# Altium footprint library J 接插件.PcbLib: 458 footprints (part 23 of 29)
Each footprint in its own frame and in the unit in brackets; x right, y up, seen from the top. Pads: shape width x height; smd on the part's side, far side on the other; paste and mask are expansions set on the pad; w line width, h text height; cw(c..) or ccw(c..) is an arc to the next point about the centre after c.
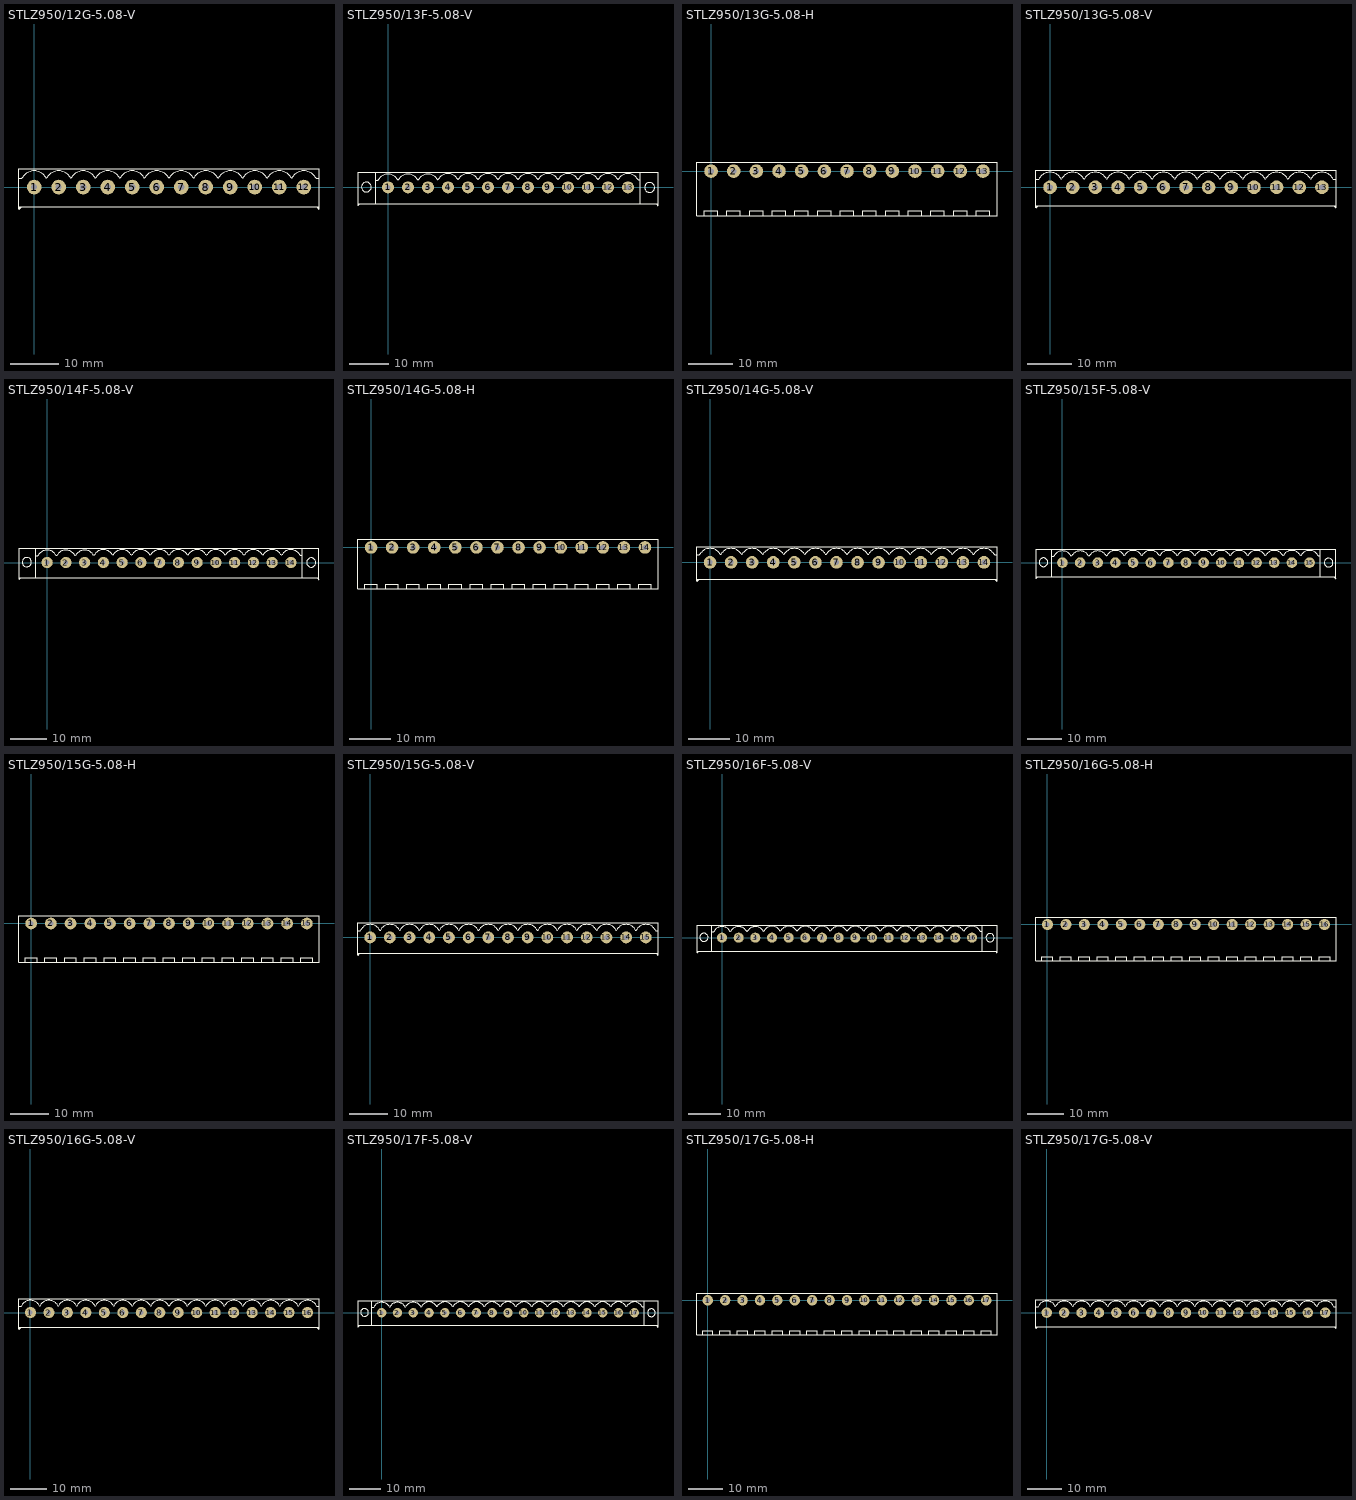
[diagram p22: the footprints below, top view; thin cyan lines are the x and y axes]

## STLZ950/12G-5.08-V [mil] "美卡诺 STLZ950 接触件座  间距：5.08   12Pin"
height 826.77
pads (12):
  round 120 hole 50: 1(0,0) 2(200,0) 3(400,0) 4(600,0) 5(800,0) 6(1000,0) 7(1200,0) 8(1400,0) 9(1600,0) 10(1800,0) 11(2000,0) 12(2200,0)
Top Overlay:
  lines w10: -123.62,-181.1 -123.62,149.61 2323.62,149.61 2323.62,-181.1 ; -123.62,-161.42 2323.62,-161.42 ; -122.05,-180.12 -104.82,-162.89 ; -120,70 -100,70 cw(c0,20) 100,70 cw(c200,20) 300,70 cw(c400,20) 500,70 cw(c600,20) 700,70 cw(c800,20) 900,70 cw(c1000,20) 1100,70 cw(c1200,20) 1300,70 cw(c1400,20) 1500,70 cw(c1600,20) 1700,70 cw(c1800,20) 1900,70 cw(c2000,20) 2100,70 cw(c2200,20) 2300,70 2320,70 ; -116.14,-172.24 -116.14,-164.37 ; 2303.64,-161.91 2322.83,-181.1 ; 2317.91,-171.26 2317.91,-162.4

## STLZ950/13F-5.08-V [mil] "美卡诺 STLZ950 接触件座  间距：5.08   13Pin  带螺丝"
height 826.77
pads (13):
  round 120 hole 50: 1(0,0) 2(200,0) 3(400,0) 4(600,0) 5(800,0) 6(1000,0) 7(1200,0) 8(1400,0) 9(1600,0) 10(1800,0) 11(2000,0) 12(2200,0) 13(2400,0)
Top Overlay:
  circle w10: c-216.54,3.94 r49.21
  circle w10: c2616.54,0 r49.21
  lines w10: -300,-181.1 -300,149.61 2700,149.61 2700,-181.1 ; -300,-161.42 2700,-161.42 ; -299.21,-180.12 -281.99,-162.89 ; -293.31,-172.24 -293.31,-164.37 ; -123.62,-161.42 -123.62,149.61 ; -120,70 -100,70 cw(c0,20) 100,70 cw(c200,20) 300,70 cw(c400,20) 500,70 ; 500,75 cw(c600,25) 700,75 cw(c800,25) 900,75 cw(c1000,25) 1100,75 cw(c1200,25) 1300,75 cw(c1400,25) 1500,75 cw(c1600,25) 1700,75 cw(c1800,25) 1900,75 cw(c2000,25) 2100,75 cw(c2200,25) 2300,75 cw(c2400,25) 2500,75 2520,75 ; 2523.62,-161.42 2523.62,149.61 ; 2682,-164 2699.22,-181.22 ; 2690,-165 2697.87,-165

## STLZ950/13G-5.08-H [mil] "美卡诺 STLZ950接触件座  间距：5.08  13Pin   弯角"
height 330.71
pads (13):
  round 120 hole 50: 1(0,0) 2(200,0) 3(400,0) 4(600,0) 5(800,0) 6(1000,0) 7(1200,0) 8(1400,0) 9(1600,0) 10(1800,0) 11(2000,0) 12(2200,0) 13(2400,0)
Top Overlay:
  lines w10: -60,-390 -60,-350 60,-350 60,-390 ; 140,-390 140,-350 260,-350 260,-390 ; 340,-390 340,-350 460,-350 460,-390 ; 540,-390 540,-350 660,-350 660,-390 ; 740,-390 740,-350 860,-350 860,-390 ; 940,-390 940,-350 1060,-350 1060,-390 ; 1140,-390 1140,-350 1260,-350 1260,-390 ; 1340,-390 1340,-350 1460,-350 1460,-390 ; 1540,-390 1540,-350 1660,-350 1660,-390 ; 1740,-390 1740,-350 1860,-350 1860,-390 ; 1940,-390 1940,-350 2060,-350 2060,-390 ; 2140,-390 2140,-350 2260,-350 2260,-390 ; 2340,-390 2340,-350 2460,-350 2460,-390 ; -123.62,-393.7 2523.62,-393.7 2523.62,78.74 -123.62,78.74 -123.62,-393.7

## STLZ950/13G-5.08-V [mil] "美卡诺 STLZ950 接触件座  间距：5.08   13Pin"
height 826.77
pads (13):
  round 120 hole 50: 1(0,0) 2(200,0) 3(400,0) 4(600,0) 5(800,0) 6(1000,0) 7(1200,0) 8(1400,0) 9(1600,0) 10(1800,0) 11(2000,0) 12(2200,0) 13(2400,0)
Top Overlay:
  lines w10: -123.62,-181.1 -123.62,149.61 2523.62,149.61 2523.62,-181.1 ; -123.62,-161.42 2523.62,-161.42 ; -122.05,-180.12 -104.82,-162.89 ; -120,70 -100,70 cw(c0,20) 100,70 cw(c200,20) 300,70 cw(c400,20) 500,70 cw(c600,20) 700,70 cw(c800,20) 900,70 cw(c1000,20) 1100,70 cw(c1200,20) 1300,70 cw(c1400,20) 1500,70 cw(c1600,20) 1700,70 cw(c1800,20) 1900,70 cw(c2000,20) 2100,70 cw(c2200,20) 2300,70 cw(c2400,20) 2500,70 2520,70 ; -116.14,-172.24 -116.14,-164.37 ; 2503.64,-161.91 2522.83,-181.1 ; 2517.91,-171.26 2517.91,-162.4

## STLZ950/14F-5.08-V [mil] "美卡诺 STLZ950 接触件座  间距：5.08   14Pin  带螺丝"
height 826.77
pads (14):
  round 120 hole 50: 1(0,0) 2(200,0) 3(400,0) 4(600,0) 5(800,0) 6(1000,0) 7(1200,0) 8(1400,0) 9(1600,0) 10(1800,0) 11(2000,0) 12(2200,0) 13(2400,0) 14(2600,0)
Top Overlay:
  circle w10: c2816.54,0 r49.21
  circle w10: c-216.54,3.94 r49.21
  lines w10: -300,-181.1 -300,149.61 2900,149.61 2900,-181.1 ; -300,-161.42 2900,-161.42 ; -299.21,-180.12 -281.99,-162.89 ; -293.31,-172.24 -293.31,-164.37 ; -123.62,-161.42 -123.62,149.61 ; -120,70 -100,70 cw(c0,20) 100,70 cw(c200,20) 300,70 cw(c400,20) 500,70 ; 500,75 cw(c600,25) 700,75 cw(c800,25) 900,75 cw(c1000,25) 1100,75 cw(c1200,25) 1300,75 cw(c1400,25) 1500,75 cw(c1600,25) 1700,75 cw(c1800,25) 1900,75 cw(c2000,25) 2100,75 cw(c2200,25) 2300,75 cw(c2400,25) 2500,75 cw(c2600,25) 2700,75 2720,75 ; 2723.62,-161.42 2723.62,149.61 ; 2882,-164 2899.22,-181.22 ; 2890,-165 2897.87,-165

## STLZ950/14G-5.08-H [mil] "美卡诺 STLZ950接触件座  间距：5.08  14Pin   弯角"
height 330.71
pads (14):
  round 120 hole 50: 1(0,0) 2(200,0) 3(400,0) 4(600,0) 5(800,0) 6(1000,0) 7(1200,0) 8(1400,0) 9(1600,0) 10(1800,0) 11(2000,0) 12(2200,0) 13(2400,0) 14(2600,0)
Top Overlay:
  lines w10: -60,-390 -60,-350 60,-350 60,-390 ; 140,-390 140,-350 260,-350 260,-390 ; 340,-390 340,-350 460,-350 460,-390 ; 540,-390 540,-350 660,-350 660,-390 ; 740,-390 740,-350 860,-350 860,-390 ; 940,-390 940,-350 1060,-350 1060,-390 ; 1140,-390 1140,-350 1260,-350 1260,-390 ; 1340,-390 1340,-350 1460,-350 1460,-390 ; 1540,-390 1540,-350 1660,-350 1660,-390 ; 1740,-390 1740,-350 1860,-350 1860,-390 ; 1940,-390 1940,-350 2060,-350 2060,-390 ; 2140,-390 2140,-350 2260,-350 2260,-390 ; 2340,-390 2340,-350 2460,-350 ; 2540,-390 2540,-350 2660,-350 2660,-390 ; 2460,-350 2460,-390 2460,-350 ; -123.62,-393.7 -123.62,78.74 2723.62,78.74 2723.62,-393.7 -123.62,-393.7

## STLZ950/14G-5.08-V [mil] "美卡诺 STLZ950 接触件座  间距：5.08   14Pin"
height 826.77
pads (14):
  round 120 hole 50: 1(0,0) 2(200,0) 3(400,0) 4(600,0) 5(800,0) 6(1000,0) 7(1200,0) 8(1400,0) 9(1600,0) 10(1800,0) 11(2000,0) 12(2200,0) 13(2400,0) 14(2600,0)
Top Overlay:
  lines w10: -123.62,-181.1 -123.62,149.61 2723.62,149.61 2723.62,-181.1 ; -123.62,-161.42 2723.62,-161.42 ; -122.05,-180.12 -104.82,-162.89 ; -120,70 -100,70 cw(c0,20) 100,70 cw(c200,20) 300,70 cw(c400,20) 500,70 cw(c600,20) 700,70 cw(c800,20) 900,70 cw(c1000,20) 1100,70 cw(c1200,20) 1300,70 cw(c1400,20) 1500,70 cw(c1600,20) 1700,70 cw(c1800,20) 1900,70 cw(c2000,20) 2100,70 cw(c2200,20) 2300,70 cw(c2400,20) 2500,70 cw(c2600,20) 2700,70 2720,70 ; -116.14,-172.24 -116.14,-164.37 ; 2703.64,-161.91 2722.83,-181.1 ; 2717.91,-171.26 2717.91,-162.4

## STLZ950/15F-5.08-V [mil] "美卡诺 STLZ950 接触件座  间距：5.08   15Pin  带螺丝"
height 826.77
pads (15):
  round 120 hole 50: 1(0,0) 2(200,0) 3(400,0) 4(600,0) 5(800,0) 6(1000,0) 7(1200,0) 8(1400,0) 9(1600,0) 10(1800,0) 11(2000,0) 12(2200,0) 13(2400,0) 14(2600,0) 15(2800,0)
Top Overlay:
  circle w10: c3016.54,0 r49.21
  circle w10: c-216.54,3.94 r49.21
  lines w10: -300,-181.1 -300,149.61 3100,149.61 3100,-181.1 ; -300,-161.42 3100,-161.42 ; -299.21,-180.12 -281.99,-162.89 ; -293.31,-172.24 -293.31,-164.37 ; -123.62,-161.42 -123.62,149.61 ; -120,70 -100,70 cw(c0,20) 100,70 cw(c200,20) 300,70 cw(c400,20) 500,70 ; 500,75 cw(c600,25) 700,75 cw(c800,25) 900,75 cw(c1000,25) 1100,75 cw(c1200,25) 1300,75 cw(c1400,25) 1500,75 cw(c1600,25) 1700,75 cw(c1800,25) 1900,75 cw(c2000,25) 2100,75 cw(c2200,25) 2300,75 cw(c2400,25) 2500,75 cw(c2600,25) 2700,75 cw(c2800,25) 2900,75 2920,75 ; 2923.62,-161.42 2923.62,149.61 ; 3082,-164 3099.22,-181.22 ; 3090,-165 3097.87,-165

## STLZ950/15G-5.08-H [mil] "美卡诺 STLZ950接触件座  间距：5.08  15Pin   弯角"
height 330.71
pads (15):
  round 120 hole 50: 1(0,0) 2(200,0) 3(400,0) 4(600,0) 5(800,0) 6(1000,0) 7(1200,0) 8(1400,0) 9(1600,0) 10(1800,0) 11(2000,0) 12(2200,0) 13(2400,0) 14(2600,0) 15(2800,0)
Top Overlay:
  lines w10: -60,-390 -60,-350 60,-350 60,-390 ; 140,-390 140,-350 260,-350 260,-390 ; 340,-390 340,-350 460,-350 460,-390 ; 540,-390 540,-350 660,-350 660,-390 ; 740,-390 740,-350 860,-350 860,-390 ; 940,-390 940,-350 1060,-350 1060,-390 ; 1140,-390 1140,-350 1260,-350 1260,-390 ; 1340,-390 1340,-350 1460,-350 1460,-390 ; 1540,-390 1540,-350 1660,-350 1660,-390 ; 1740,-390 1740,-350 1860,-350 1860,-390 ; 1940,-390 1940,-350 2060,-350 2060,-390 ; 2140,-390 2140,-350 2260,-350 2260,-390 ; 2340,-390 2340,-350 2460,-350 ; 2540,-390 2540,-350 2660,-350 2660,-390 ; 2740,-390 2740,-350 2860,-350 2860,-390 ; 2460,-350 2460,-390 2460,-350 ; -123.62,-393.7 -123.62,78.74 2923.62,78.74 2923.62,-393.7 -123.62,-393.7

## STLZ950/15G-5.08-V [mil] "美卡诺 STLZ950 接触件座  间距：5.08   15Pin"
height 826.77
pads (15):
  round 120 hole 50: 1(0,0) 2(200,0) 3(400,0) 4(600,0) 5(800,0) 6(1000,0) 7(1200,0) 8(1400,0) 9(1600,0) 10(1800,0) 11(2000,0) 12(2200,0) 13(2400,0) 14(2600,0) 15(2800,0)
Top Overlay:
  lines w10: -123.62,-181.1 -123.62,149.61 2923.62,149.61 2923.62,-181.1 ; -123.62,-161.42 2923.62,-161.42 ; -122.05,-180.12 -104.82,-162.89 ; -120,70 -100,70 cw(c0,20) 100,70 cw(c200,20) 300,70 cw(c400,20) 500,70 cw(c600,20) 700,70 cw(c800,20) 900,70 cw(c1000,20) 1100,70 cw(c1200,20) 1300,70 cw(c1400,20) 1500,70 cw(c1600,20) 1700,70 cw(c1800,20) 1900,70 cw(c2000,20) 2100,70 cw(c2200,20) 2300,70 cw(c2400,20) 2500,70 cw(c2600,20) 2700,70 cw(c2800,20) 2900,70 2920,70 ; -116.14,-172.24 -116.14,-164.37 ; 2903.64,-161.91 2922.83,-181.1 ; 2917.91,-171.26 2917.91,-162.4

## STLZ950/16F-5.08-V [mil] "美卡诺 STLZ950 接触件座  间距：5.08   16Pin  带螺丝"
height 826.77
pads (16):
  round 120 hole 50: 1(0,0) 2(200,0) 3(400,0) 4(600,0) 5(800,0) 6(1000,0) 7(1200,0) 8(1400,0) 9(1600,0) 10(1800,0) 11(2000,0) 12(2200,0) 13(2400,0) 14(2600,0) 15(2800,0) 16(3000,0)
Top Overlay:
  circle w10: c-216.54,3.94 r49.21
  circle w10: c3216.54,0 r49.21
  lines w10: -300,-181.1 -300,149.61 3300,149.61 3300,-181.1 ; -300,-161.42 3300,-161.42 ; -299.21,-180.12 -281.99,-162.89 ; -293.31,-172.24 -293.31,-164.37 ; -123.62,-161.42 -123.62,149.61 ; -120,70 -100,70 cw(c0,20) 100,70 cw(c200,20) 300,70 cw(c400,20) 500,70 ; 500,75 cw(c600,25) 700,75 cw(c800,25) 900,75 cw(c1000,25) 1100,75 cw(c1200,25) 1300,75 cw(c1400,25) 1500,75 cw(c1600,25) 1700,75 cw(c1800,25) 1900,75 cw(c2000,25) 2100,75 cw(c2200,25) 2300,75 cw(c2400,25) 2500,75 cw(c2600,25) 2700,75 cw(c2800,25) 2900,75 cw(c3000,25) 3100,75 3120,75 ; 3123.62,-161.42 3123.62,149.61 ; 3282,-164 3299.22,-181.22 ; 3290,-165 3297.87,-165

## STLZ950/16G-5.08-H [mil] "美卡诺 STLZ950接触件座  间距：5.08  16Pin   弯角"
height 330.71
pads (16):
  round 120 hole 50: 1(0,0) 2(200,0) 3(400,0) 4(600,0) 5(800,0) 6(1000,0) 7(1200,0) 8(1400,0) 9(1600,0) 10(1800,0) 11(2000,0) 12(2200,0) 13(2400,0) 14(2600,0) 15(2800,0) 16(3000,0)
Top Overlay:
  lines w10: -60,-390 -60,-350 60,-350 60,-390 ; 140,-390 140,-350 260,-350 260,-390 ; 340,-390 340,-350 460,-350 460,-390 ; 540,-390 540,-350 660,-350 660,-390 ; 740,-390 740,-350 860,-350 860,-390 ; 940,-390 940,-350 1060,-350 1060,-390 ; 1140,-390 1140,-350 1260,-350 1260,-390 ; 1340,-390 1340,-350 1460,-350 1460,-390 ; 1540,-390 1540,-350 1660,-350 1660,-390 ; 1740,-390 1740,-350 1860,-350 1860,-390 ; 1940,-390 1940,-350 2060,-350 2060,-390 ; 2140,-390 2140,-350 2260,-350 2260,-390 ; 2340,-390 2340,-350 2460,-350 ; 2540,-390 2540,-350 2660,-350 2660,-390 ; 2740,-390 2740,-350 2860,-350 2860,-390 ; 2940,-390 2940,-350 3060,-350 3060,-390 ; 2460,-350 2460,-390 2460,-350 ; -123.62,-393.7 3123.62,-393.7 3123.62,78.74 -123.62,78.74 -123.62,-393.7

## STLZ950/16G-5.08-V [mil] "美卡诺 STLZ950 接触件座  间距：5.08   16Pin"
height 826.77
pads (16):
  round 120 hole 50: 1(0,0) 2(200,0) 3(400,0) 4(600,0) 5(800,0) 6(1000,0) 7(1200,0) 8(1400,0) 9(1600,0) 10(1800,0) 11(2000,0) 12(2200,0) 13(2400,0) 14(2600,0) 15(2800,0) 16(3000,0)
Top Overlay:
  lines w10: -123.62,-181.1 -123.62,149.61 3123.62,149.61 3123.62,-181.1 ; -123.62,-161.42 3123.62,-161.42 ; -122.05,-180.12 -104.82,-162.89 ; -120,70 -100,70 cw(c0,20) 100,70 cw(c200,20) 300,70 cw(c400,20) 500,70 cw(c600,20) 700,70 cw(c800,20) 900,70 cw(c1000,20) 1100,70 cw(c1200,20) 1300,70 cw(c1400,20) 1500,70 cw(c1600,20) 1700,70 cw(c1800,20) 1900,70 cw(c2000,20) 2100,70 cw(c2200,20) 2300,70 cw(c2400,20) 2500,70 cw(c2600,20) 2700,70 cw(c2800,20) 2900,70 cw(c3000,20) 3100,70 3120,70 ; -116.14,-172.24 -116.14,-164.37 ; 3103.64,-161.91 3122.83,-181.1 ; 3117.91,-171.26 3117.91,-162.4

## STLZ950/17F-5.08-V [mil] "美卡诺 STLZ950 接触件座  间距：5.08   17Pin  带螺丝"
height 826.77
pads (17):
  round 120 hole 50: 1(0,0) 2(200,0) 3(400,0) 4(600,0) 5(800,0) 6(1000,0) 7(1200,0) 8(1400,0) 9(1600,0) 10(1800,0) 11(2000,0) 12(2200,0) 13(2400,0) 14(2600,0) 15(2800,0) 16(3000,0) 17(3200,0)
Top Overlay:
  circle w10: c3416.54,0 r49.21
  circle w10: c-216.54,3.94 r49.21
  lines w10: -300,-181.1 -300,149.61 3500,149.61 3500,-181.1 ; -300,-161.42 3500,-161.42 ; -299.21,-180.12 -281.99,-162.89 ; -293.31,-172.24 -293.31,-164.37 ; -123.62,-161.42 -123.62,149.61 ; -120,70 -100,70 cw(c0,20) 100,70 cw(c200,20) 300,70 cw(c400,20) 500,70 ; 500,75 cw(c600,25) 700,75 cw(c800,25) 900,75 cw(c1000,25) 1100,75 cw(c1200,25) 1300,75 cw(c1400,25) 1500,75 cw(c1600,25) 1700,75 cw(c1800,25) 1900,75 cw(c2000,25) 2100,75 cw(c2200,25) 2300,75 cw(c2400,25) 2500,75 cw(c2600,25) 2700,75 cw(c2800,25) 2900,75 cw(c3000,25) 3100,75 cw(c3200,25) 3300,75 3320,75 ; 3323.62,-161.42 3323.62,149.61 ; 3482,-164 3499.22,-181.22 ; 3490,-165 3497.87,-165

## STLZ950/17G-5.08-H [mil] "美卡诺 STLZ950接触件座  间距：5.08  17Pin   弯角"
height 330.71
pads (17):
  round 120 hole 50: 1(0,0) 2(200,0) 3(400,0) 4(600,0) 5(800,0) 6(1000,0) 7(1200,0) 8(1400,0) 9(1600,0) 10(1800,0) 11(2000,0) 12(2200,0) 13(2400,0) 14(2600,0) 15(2800,0) 16(3000,0) 17(3200,0)
Top Overlay:
  lines w10: -60,-390 -60,-350 60,-350 60,-390 ; 140,-390 140,-350 260,-350 260,-390 ; 340,-390 340,-350 460,-350 460,-390 ; 540,-390 540,-350 660,-350 660,-390 ; 740,-390 740,-350 860,-350 860,-390 ; 940,-390 940,-350 1060,-350 1060,-390 ; 1140,-390 1140,-350 1260,-350 1260,-390 ; 1340,-390 1340,-350 1460,-350 1460,-390 ; 1540,-390 1540,-350 1660,-350 1660,-390 ; 1740,-390 1740,-350 1860,-350 1860,-390 ; 1940,-390 1940,-350 2060,-350 2060,-390 ; 2140,-390 2140,-350 2260,-350 2260,-390 ; 2340,-390 2340,-350 2460,-350 ; 2540,-390 2540,-350 2660,-350 2660,-390 ; 2740,-390 2740,-350 2860,-350 2860,-390 ; 2940,-390 2940,-350 3060,-350 3060,-390 ; 3140,-390 3140,-350 3260,-350 3260,-390 ; 2460,-350 2460,-390 2460,-350 ; -123.62,-393.7 3323.62,-393.7 3323.62,78.74 -123.62,78.74 -123.62,-393.7

## STLZ950/17G-5.08-V [mil] "美卡诺 STLZ950 接触件座  间距：5.08   17Pin"
height 826.77
pads (17):
  round 120 hole 50: 1(0,0) 2(200,0) 3(400,0) 4(600,0) 5(800,0) 6(1000,0) 7(1200,0) 8(1400,0) 9(1600,0) 10(1800,0) 11(2000,0) 12(2200,0) 13(2400,0) 14(2600,0) 15(2800,0) 16(3000,0) 17(3200,0)
Top Overlay:
  lines w10: -123.62,-181.1 -123.62,149.61 3323.62,149.61 3323.62,-181.1 ; -123.62,-161.42 3323.62,-161.42 ; -122.05,-180.12 -104.82,-162.89 ; -120,70 -100,70 cw(c0,20) 100,70 cw(c200,20) 300,70 cw(c400,20) 500,70 cw(c600,20) 700,70 cw(c800,20) 900,70 cw(c1000,20) 1100,70 cw(c1200,20) 1300,70 cw(c1400,20) 1500,70 cw(c1600,20) 1700,70 cw(c1800,20) 1900,70 cw(c2000,20) 2100,70 cw(c2200,20) 2300,70 cw(c2400,20) 2500,70 cw(c2600,20) 2700,70 cw(c2800,20) 2900,70 cw(c3000,20) 3100,70 cw(c3200,20) 3300,70 3320,70 ; -116.14,-172.24 -116.14,-164.37 ; 3303.64,-161.91 3322.83,-181.1 ; 3317.91,-171.26 3317.91,-162.4